# EAGLE library part SN74HCT08PWR (library SamacSys_Parts)
Quadruple 2-Input Positive-AND Gates Source: Datasheet <http://www.ti.com/lit/gpn/sn74hct08>
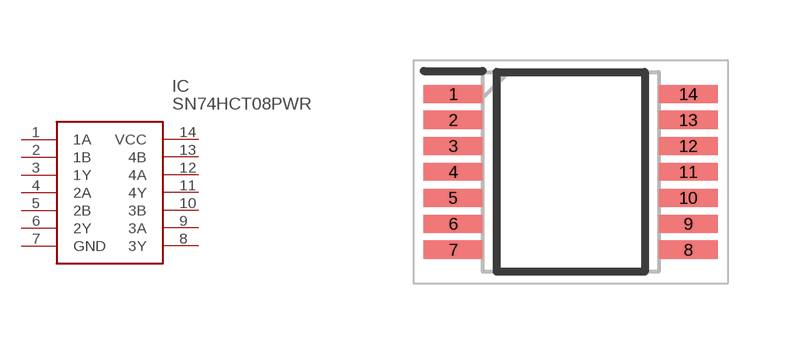
[diagram p62: symbol with the pads of SOP65P640X120-14N; footprint SOP65P640X120-14N]

Designator prefix IC

## SN74HCT08PWR (DESCRIPTION: Quadruple 2-Input Positive-AND Gates; HEIGHT: 1.2mm; MANUFACTURER_NAME: Texas Instruments; MANUFACTURER_PART_NUMBER: SN74HCT08PWR; MOUSER_PART_NUMBER: 595-SN74HCT08PWR; MOUSER_PRICE-STOCK: https://www.mouser.co.uk/ProductDetail/Texas-Instruments/SN74HCT08PWR?qs=rgxfVHSNRPUdCZ27Wwxj4g%3D%3D)  [SOP65P640X120-14N]
1  1A
2  1B
3  1Y
4  2A
5  2B
6  2Y
7  GND
8  3Y
9  3A
10  3B
11  4Y
12  4A
13  4B
14  VCC

## Footprint SOP65P640X120-14N (pad centres in mm)
14-Pin TSSOP-ren1
smd 1.475 x 0.45: 1 -2.938,1.95; 2 -2.938,1.3; 3 -2.938,0.65; 4 -2.938,0; 5 -2.938,-0.65; 6 -2.938,-1.3; 7 -2.938,-1.95; 8 2.938,-1.95; 9 2.938,-1.3; 10 2.938,-0.65; 11 2.938,0; 12 2.938,0.65; 13 2.938,1.3; 14 2.938,1.95